# EAGLE library part 66201821122 (library Wire_to_Board_Connectors_rev15d)
WR-MPC3 3.00mm Male Dual Row Vertical Header, 18 Pins=>Code : Con_WTB_MPC3_2_PCB_THT_66201821122 <http://katalog.we-online.de/media/thumbs2/eican/thb_Con_WTB_MPC3_2_PCB_THT_6620xx21122_pf2.jpg> Details see: http://katalog.we-online.de/en/em/662_0xx_211_22 Created 2014-06-06, Karrer Zheng 2014 (C) Würth Elektronik
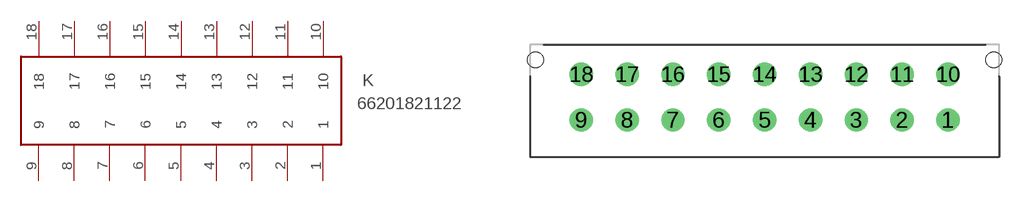
[diagram p382: symbol with the pads of 66201821122; footprint 66201821122]

Designator prefix K

## 66201821122  [66201821122]
1  1  pas
2  2  pas
3  3  pas
4  4  pas
5  5  pas
6  6  pas
7  7  pas
8  8  pas
9  9  pas
10  10  pas
11  11  pas
12  12  pas
13  13  pas
14  14  pas
15  15  pas
16  16  pas
17  17  pas
18  18  pas

## Footprint 66201821122 (pad centres in mm)
WR-MPC3-3.00mm Male Dual Row Vertical Header,18 pins
drill 1.02: 1 12,-1.5; 2 9,-1.5; 3 6,-1.5; 4 3,-1.5; 5 0,-1.5; 6 -3,-1.5; 7 -6,-1.5; 8 -9,-1.5; 9 -12,-1.5; 10 12,1.5; 11 9,1.5; 12 6,1.5; 13 3,1.5; 14 0,1.5; 15 -3,1.5; 16 -6,1.5; 17 -9,1.5; 18 -12,1.5
hole 1.02 at -15,2.44
hole 1.02 at 15,2.44